# EAGLE library part 6_PIN_FPC (library Eric Navarrete Custom Parts Feb 2019)
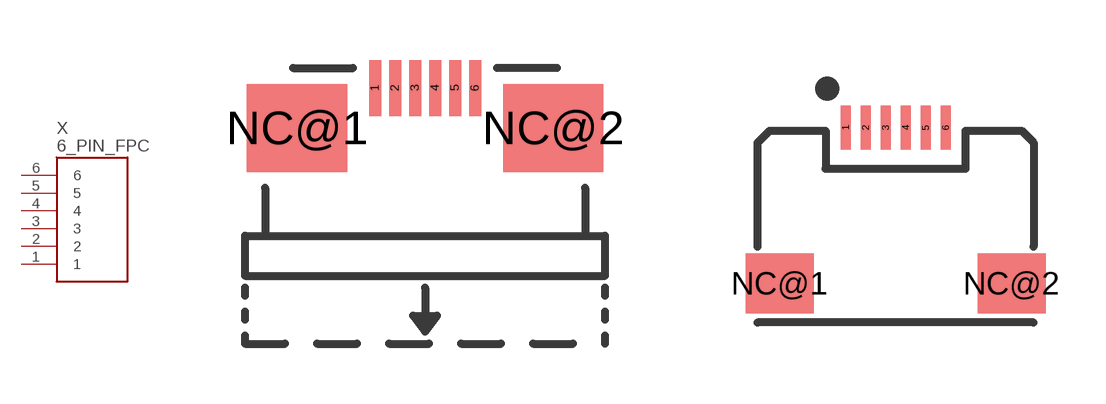
[diagram p41: symbol with the pads of SFV6R-2STE1HLF; footprints SFV6R-2STE1HLF, XF2M-0615-1A]

Designator prefix X

## 6_PIN_FPCFRONT_SLIDE_LOCK  [SFV6R-2STE1HLF]
1  1  in
2  2  in
3  3  in
4  4  in
5  5  in
6  6  in

## 6_PIN_FPCROTARY_BACKLOCK_TOP/BOTTOM  [XF2M-0615-1A]
Pads as for SFV6R-2STE1HLF

## Footprint SFV6R-2STE1HLF (pad centres in mm)
smd 0.3 x 1.4: 1 -1.25,3; 2 -0.75,3; 3 -0.25,3; 4 0.25,3; 5 0.75,3; 6 1.25,3
smd 2.5 x 2.2: NC@1 -3.2,2; NC@2 3.2,2

## Footprint XF2M-0615-1A (pad centres in mm)
smd 0.25 x 1.1: 1 -1.25,0; 2 -0.75,0; 3 -0.25,0; 4 0.25,0; 5 0.75,0; 6 1.25,0
smd 1.7 x 1.5: NC@1 -2.9,-3.9; NC@2 2.9,-3.9